# Altium schematic symbol library BQ24313.SchLib: 1 symbol
Pins are listed as number, name and electrical type; pins without a type are passive.

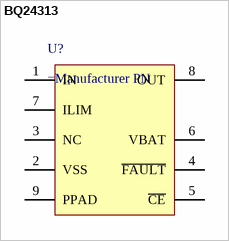
[diagram p0: symbol BQ24313]

## BQ24313
designator U?
pins: 1 IN, 2 VSS, 3 NC, 4 ~{FAULT}, 5 ~{CE}, 6 VBAT, 7 ILIM, 8 OUT, 9 PPAD